# Altium schematic symbol library E2S_E2S_030_V1.SchLib: 3 symbols
Pins are listed as number, name and electrical type; pins without a type are passive.

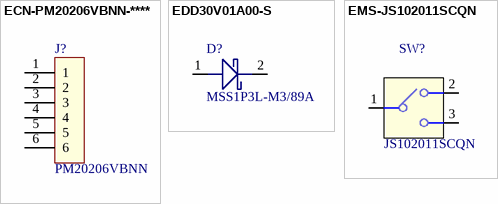
[diagram p0: symbols ECN-PM20206VBNN-**** to EMS-JS102011SCQN]

## ECN-PM20206VBNN-****
designator J?, comment value PM20206VBNN  (hidden comment: CONN HEADER SMD 6POS 2.54MM)
Manufacturer: METZ CONNECT USA Inc.; Vendor Part Number: 1849-1036-ND; Internal Part Number: ECN-PM20206VBNN-****; Vendor Name: Digi-Key; 3rd Auxiliary Field: RoHS Compliant; Component Height (mm): 6.00mm; Temp Co: -40°C ~ 105°C; 2nd Auxiliary Field: 6; Part Type: CONN HEADER SMD 6POS 2.54MM; Manufacturer Part Number: PM20206VBNN; 4th Auxiliary Field: *; 1st Auxiliary Field: 2.54mm
footprint HDRV6W175P254_1X6_25X1775X6P
pins: 1, 2, 3, 4, 5, 6

## EDD30V01A00-S
designator D?, comment value MSS1P3L-M3/89A  (hidden comment: DIODE SCHOTTKY 30V 1A MICROSMP)
Manufacturer: Vishay Semiconductor Diodes Division; Vendor Part Number: MSS1P3L-M3/89AGICT-ND; Internal Part Number: EDD30V01A00-S; 3rd Auxiliary Field: ROHS3 Compliant; Vendor Name: Digi-Key; Component Height (mm): 0.73mm; Temp Co: -55°C ~ 150°C; 2nd Auxiliary Field: 500mV @ 1A; Part Type: DIODE SCHOTTKY 30V 1A MICROSMP; Manufacturer Part Number: MSS1P3L-M3/89A; 4th Auxiliary Field: *; 1st Auxiliary Field: 30V
footprint SODFL250X73-2N (SODFL, 2-Leads, Body 1.30x2.50mm, IPC Medium Density)
pins: 1 A, 2 K

## EMS-JS102011SCQN
designator SW?, comment value JS102011SCQN  (hidden comment: SWITCH SLIDE SPDT 300MA 6V)
Manufacturer: C&K; Vendor Part Number: CKN10877CT-ND; Internal Part Number: EMS-JS102011SCQN; 3rd Auxiliary Field: RoHS Compliant; Vendor Name: Digi-Key; Component Height (mm): 16.61mm; 1st Auxiliary Field: 300mA (DC); Temp Co: -40°C ~ 85°C; Part Type: SWITCH SLIDE SPDT 300MA 6V; Manufacturer Part Number: JS102011SCQN; 4th Auxiliary Field: *; 2nd Auxiliary Field: SPDT
footprint C&K_ JS102011SCQN
pins: 1, 2, 3